# EAGLE library part ESP32DEVKIT1-REDUCED (library ESP32-DEVKIT)
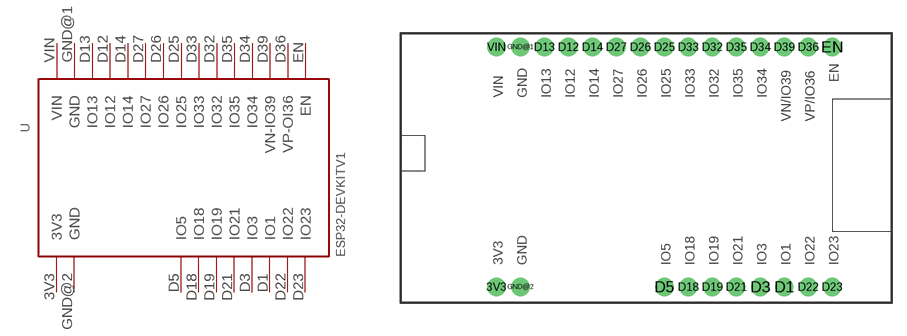
[diagram p1: symbol with the pads of ESP32-DEVKIT1-REDUCED; footprint ESP32-DEVKIT1-REDUCED]

Designator prefix -

## ESP32DEVKIT1-REDUCED  [ESP32-DEVKIT1-REDUCED]
3V3  3V3
D1  IO1
D3  IO3
D5  IO5
D12  IO12
D13  IO13
D14  IO14
D18  IO18
D19  IO19
D21  IO21
D22  IO22
D23  IO23
D25  IO25
D26  IO26
D27  IO27
D32  IO32
D33  IO33
D34  IO34
D35  IO35
D36  VP-OI36
D39  VN-IO39
EN  EN
GND@1  GND
GND@2  GND
VIN  VIN

## Footprint ESP32-DEVKIT1-REDUCED (pad centres in mm)
drill 1 pad 1.93: 3V3 -15.25,-12.27; D1 15.23,-12.27; D3 12.69,-12.27; D5 2.53,-12.27; D12 -7.63,13.135; D13 -10.17,13.135; D14 -5.09,13.135; D18 5.07,-12.27; D19 7.61,-12.27; D21 10.15,-12.27; D22 17.77,-12.27; D23 20.31,-12.27; D25 2.53,13.135; D26 -0.01,13.135; D27 -2.55,13.135; D32 7.61,13.135; D33 5.07,13.135; D34 12.69,13.135; D35 10.15,13.135; D36 17.77,13.135; D39 15.23,13.135; EN 20.31,13.135; GND@1 -12.71,13.135; GND@2 -12.71,-12.27; VIN -15.25,13.135